# Altium footprint library IC_Port.PcbLib: 1 footprints
Each footprint in its own frame and in the unit in brackets; x right, y up, seen from the top. Pads: shape width x height; smd on the part's side, far side on the other; paste and mask are expansions set on the pad; w line width, h text height; cw(c..) or ccw(c..) is an arc to the next point about the centre after c.
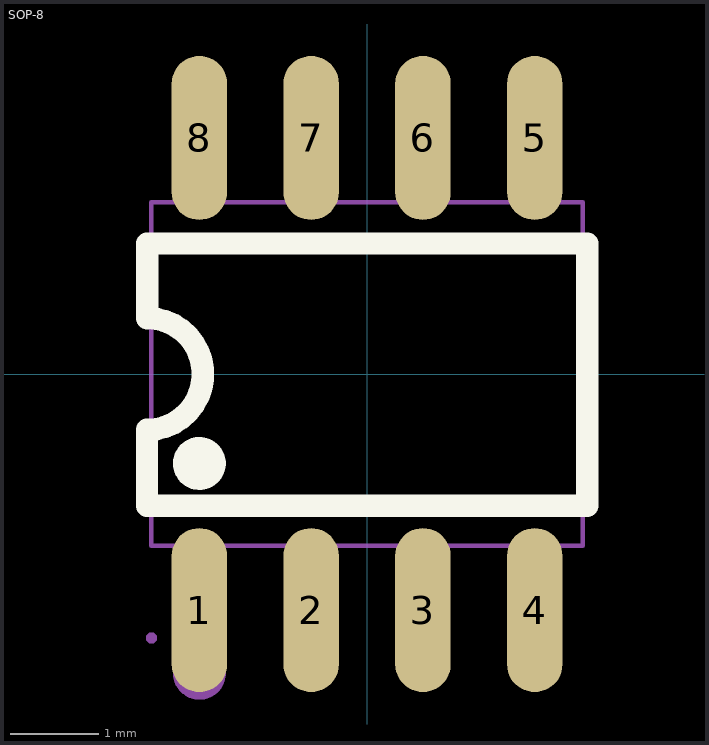
[diagram p0: the footprint, top view; thin cyan lines are the x and y axes]

## SOP-8 [mm]
pads (8):
  oval 0.63x1.865 smd: 1(-1.905,-2.682) 2(-0.635,-2.682) 3(0.635,-2.682) 4(1.905,-2.682) 5(1.905,2.682) 6(0.635,2.682) 7(-0.635,2.682) 8(-1.905,2.682)
Top Overlay:
  circle w0.3: c-1.905,-1.016 r0.15
  lines w0.254: -2.5,-1.498 -2.5,-0.635 ccw(c-2.5,0) -2.499,0.635 -2.499,1.482 2.5,1.482 2.5,-1.498 -2.5,-1.498
Mechanical 6:
  circle w0.3: c-1.905,-3.4 r0.15
Mechanical 15:
  region: -2.39,-3 -2.39,-3.025 -2.425,-3.06 -2.475,-3.06 -2.51,-3.025 -2.51,-3 -2.51,-2.975 -2.475,-2.94 -2.425,-2.94 -2.39,-2.975 -2.39,-3
  region: 1.695,2.165 1.695,3 2.115,3 2.115,2.165
  region: 0.425,2.165 0.425,3 0.845,3 0.845,2.165
  region: -0.845,2.165 -0.845,3 -0.425,3 -0.425,2.165
  region: -2.115,2.165 -2.115,3 -1.695,3 -1.695,2.165
  region: 1.695,-3 1.695,-2.165 2.115,-2.165 2.115,-3
  region: 0.425,-3 0.425,-2.165 0.845,-2.165 0.845,-3
  region: -0.845,-3 -0.845,-2.165 -0.425,-2.165 -0.425,-3
  region: -2.115,-3 -2.115,-2.165 -1.695,-2.165 -1.695,-3
  region: 1.695,2.232 2.115,2.232 2.115,1.942 1.695,1.942
  region: 0.425,2.232 0.845,2.232 0.845,1.942 0.425,1.942
  region: -0.845,2.232 -0.425,2.232 -0.425,1.942 -0.845,1.942
  region: -2.115,2.232 -1.695,2.232 -1.695,1.942 -2.115,1.942
  region: -1.695,-2.232 -2.115,-2.232 -2.115,-1.942 -1.695,-1.942
  region: -0.425,-2.232 -0.845,-2.232 -0.845,-1.942 -0.425,-1.942
  region: 0.845,-2.232 0.425,-2.232 0.425,-1.942 0.845,-1.942
  region: 2.115,-2.232 1.695,-2.232 1.695,-1.942 2.115,-1.942
  lines w0.051: -2.45,-1.95 -2.45,1.95 2.45,1.95 2.45,-1.95 -2.45,-1.95
3D body "SOP-8.step": height 1.9, standoff 0.1, extent -2.5,-3.103 2.5,3.103